# Altium footprint library Passive_Footprints.PcbLib: 25 footprints (part 2 of 2)
Each footprint in its own frame and in the unit in brackets; x right, y up, seen from the top. Pads: shape width x height; smd on the part's side, far side on the other; paste and mask are expansions set on the pad; w line width, h text height; cw(c..) or ccw(c..) is an arc to the next point about the centre after c.
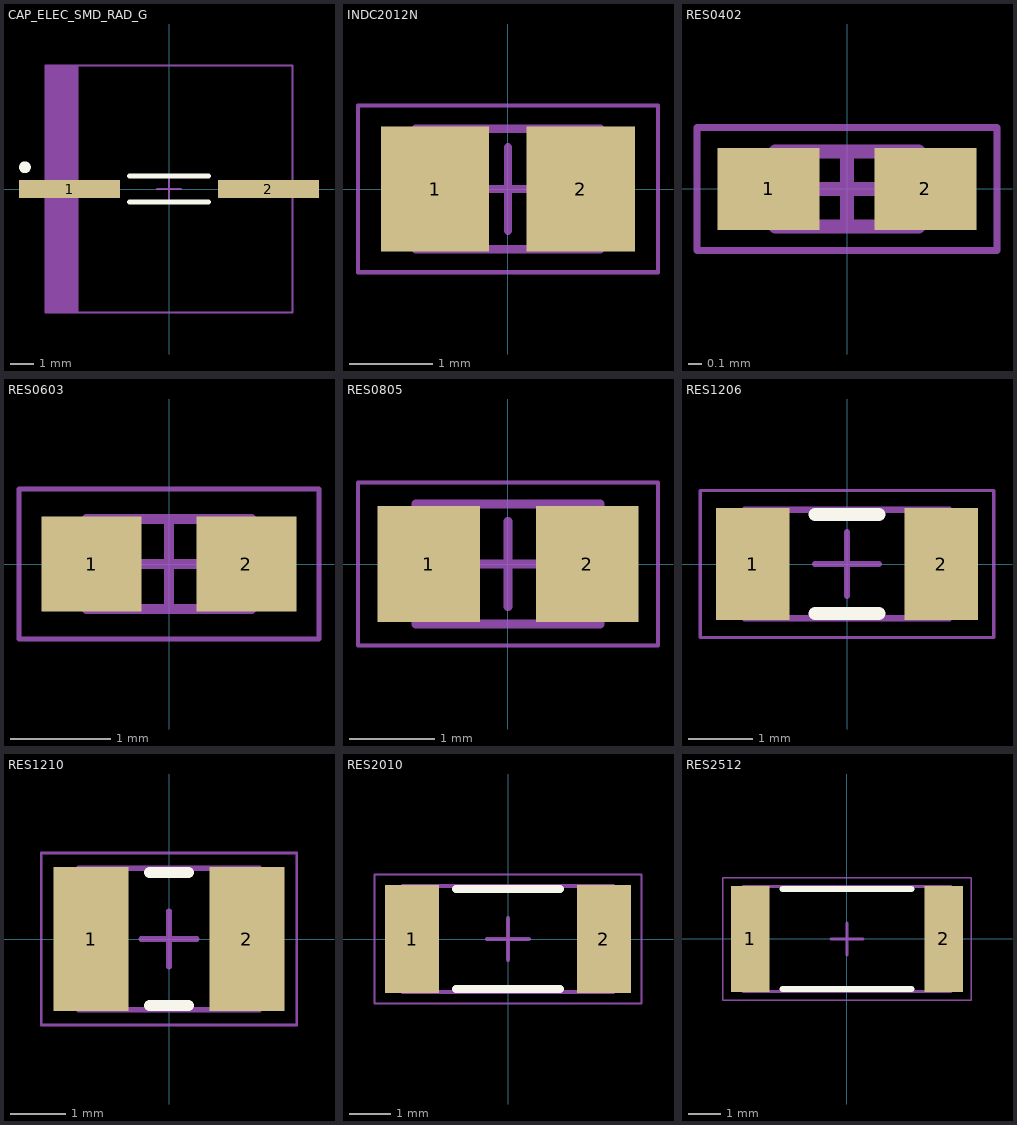
[diagram p1: the footprints below, top view; thin cyan lines are the x and y axes]

## CAP_ELEC_SMD_RAD_G [mm] "Molded Capacitor, 2-Leads, Body 11.60x0.85mm, IPC Medium Density"
height 1.8
pads (2):
  rect 4.3x0.75 smd: 1(-4.225,0) 2(4.225,0)
Top Overlay:
  circle w0.25: c-6.125,0.925 r0.125
  lines w0.2: -1.675,-0.55 1.675,-0.55 ; -1.675,0.55 1.675,0.55
Mechanical 13:
  rectangle: -5.25,-5.25 -3.838,5.25
  lines w0.1: -5.25,-5.25 5.25,-5.25 5.25,5.25 -5.25,5.25 -5.25,-5.25
Mechanical 15:
  lines w0.05: -5.25,-5.25 5.25,-5.25 5.25,5.25 -5.25,5.25 -5.25,-5.25
  lines w0.1: -0.5,0 0.5,0 ; 0,-0.5 0,0.5
3D body: height 1.8, standoff 0, extent -5.25,-5.25 5.25,5.25

## INDC2012N [mm] "0805 Chip Inductor, 2-Leads, Body 2.01x1.25mm, IPC Medium Density"
height 0.89
pads (2):
  rect 1.3x1.5 smd: 1(-0.875,0) 2(0.875,0)
Mechanical 9:
  lines w0.05: -1.8,-1 1.8,-1 1.8,1 -1.8,1 -1.8,-1
  text ".Designator" at -0.175,-0.15 h0.3
Mechanical 13:
  lines w0.1: -1.105,-0.725 1.105,-0.725 1.105,0.725 -1.105,0.725 -1.105,-0.725
Mechanical 15:
  lines w0.05: -1.8,-1 1.8,-1 1.8,1 -1.8,1 -1.8,-1
  lines w0.1: -0.5,0 0.5,0 ; 0,-0.5 0,0.5
3D body: height 0.89, standoff 0, extent 0.605,-0.725 1.105,0.725
3D body: height 0.89, standoff 0, extent -1.105,-0.725 -0.605,0.725
3D body: height 0.89, standoff 0, extent -0.605,-0.725 0.605,0.725

## RES0402 [mm] "Chip Resistor, 2-Leads, Body 1.00x0.50mm, IPC Medium Density"
height 0.5
pads (2):
  rect 0.75x0.6 smd: 1(-0.575,0) 2(0.575,0)
Mechanical 13:
  lines w0.1: -0.525,-0.275 0.525,-0.275 0.525,0.275 -0.525,0.275 -0.525,-0.275
Mechanical 15:
  lines w0.05: -1.1,-0.45 1.1,-0.45 1.1,0.45 -1.1,0.45 -1.1,-0.45
  lines w0.1: -0.275,0 0.275,0 ; 0,-0.275 0,0.275
3D body: height 0.5, standoff 0, extent 0.325,-0.275 0.525,0.275
3D body: height 0.5, standoff 0, extent -0.525,-0.275 -0.325,0.275
3D body: height 0.5, standoff 0, extent -0.325,-0.275 0.325,0.275

## RES0603 [mm] "Chip Resistor, 2-Leads, Body 1.55x0.80mm, IPC Medium Density"
height 0.55
pads (2):
  rect 1x0.95 smd: 1(-0.775,0) 2(0.775,0)
Mechanical 13:
  lines w0.1: -0.825,-0.45 0.825,-0.45 0.825,0.45 -0.825,0.45 -0.825,-0.45
Mechanical 15:
  lines w0.05: -1.5,-0.75 1.5,-0.75 1.5,0.75 -1.5,0.75 -1.5,-0.75
  lines w0.1: -0.45,0 0.45,0 ; 0,-0.45 0,0.45
3D body: height 0.55, standoff 0, extent 0.525,-0.45 0.825,0.45
3D body: height 0.55, standoff 0, extent -0.825,-0.45 -0.525,0.45
3D body: height 0.55, standoff 0, extent -0.525,-0.45 0.525,0.45

## RES0805 [mm] "Chip Resistor, 2-Leads, Body 2.00x1.25mm, IPC Medium Density"
height 0.6
pads (2):
  rect 1.2x1.35 smd: 1(-0.925,0) 2(0.925,0)
Mechanical 13:
  lines w0.1: -1.075,-0.7 1.075,-0.7 1.075,0.7 -1.075,0.7 -1.075,-0.7
Mechanical 15:
  lines w0.05: -1.75,-0.95 1.75,-0.95 1.75,0.95 -1.75,0.95 -1.75,-0.95
  lines w0.1: -0.5,0 0.5,0 ; 0,-0.5 0,0.5
3D body: height 0.6, standoff 0, extent 0.695,-0.7 1.075,0.7
3D body: height 0.6, standoff 0, extent -1.075,-0.7 -0.695,0.7
3D body: height 0.6, standoff 0, extent -0.695,-0.7 0.695,0.7

## RES1206 [mm] "Chip Resistor, 2-Leads, Body 3.05x1.55mm, IPC Medium Density"
height 0.75
pads (2):
  rect 1.15x1.75 smd: 1(-1.475,0) 2(1.475,0)
Top Overlay:
  lines w0.2: -0.5,-0.775 0.5,-0.775 ; -0.5,0.775 0.5,0.775
Mechanical 13:
  lines w0.1: -1.6,-0.85 1.6,-0.85 1.6,0.85 -1.6,0.85 -1.6,-0.85
Mechanical 15:
  lines w0.05: -2.3,-1.15 2.3,-1.15 2.3,1.15 -2.3,1.15 -2.3,-1.15
  lines w0.1: -0.5,0 0.5,0 ; 0,-0.5 0,0.5
3D body: height 0.75, standoff 0, extent 1.22,-0.85 1.6,0.85
3D body: height 0.75, standoff 0, extent -1.6,-0.85 -1.22,0.85
3D body: height 0.75, standoff 0, extent -1.22,-0.85 1.22,0.85

## RES1210 [mm] "Chip Resistor, 2-Leads, Body 3.10x2.40mm, IPC Medium Density"
height 0.65
pads (2):
  rect 1.35x2.6 smd: 1(-1.4,0) 2(1.4,0)
Top Overlay:
  lines w0.2: -0.35,-1.2 0.35,-1.2 ; -0.35,1.2 0.35,1.2
Mechanical 13:
  lines w0.1: -1.625,-1.275 1.625,-1.275 1.625,1.275 -1.625,1.275 -1.625,-1.275
Mechanical 15:
  lines w0.05: -2.3,-1.55 2.3,-1.55 2.3,1.55 -2.3,1.55 -2.3,-1.55
  lines w0.1: -0.5,0 0.5,0 ; 0,-0.5 0,0.5
3D body: height 0.65, standoff 0, extent 1.175,-1.275 1.625,1.275
3D body: height 0.65, standoff 0, extent -1.625,-1.275 -1.175,1.275
3D body: height 0.65, standoff 0, extent -1.175,-1.275 1.175,1.275

## RES2010 [mm] "Chip Resistor, 2-Leads, Body 4.90x2.40mm, IPC Medium Density"
height 0.65
pads (2):
  rect 1.3x2.6 smd: 1(-2.3,0) 2(2.3,0)
Top Overlay:
  lines w0.2: -1.25,-1.2 1.25,-1.2 ; -1.25,1.2 1.25,1.2
Mechanical 13:
  lines w0.1: -2.525,-1.275 2.525,-1.275 2.525,1.275 -2.525,1.275 -2.525,-1.275
Mechanical 15:
  lines w0.05: -3.2,-1.55 3.2,-1.55 3.2,1.55 -3.2,1.55 -3.2,-1.55
  lines w0.1: -0.5,0 0.5,0 ; 0,-0.5 0,0.5
3D body: height 0.65, standoff 0, extent 2.045,-1.275 2.525,1.275
3D body: height 0.65, standoff 0, extent -2.525,-1.275 -2.045,1.275
3D body: height 0.65, standoff 0, extent -2.045,-1.275 2.045,1.275

## RES2512 [mm] "Chip Resistor, 2-Leads, Body 6.30x3.10mm, IPC Medium Density"
height 0.65
pads (2):
  rect 1.2x3.3 smd: 1(-3,0) 2(3,0)
Top Overlay:
  lines w0.2: -2,-1.55 2,-1.55 ; -2,1.55 2,1.55
Mechanical 13:
  lines w0.1: -3.225,-1.625 3.225,-1.625 3.225,1.625 -3.225,1.625 -3.225,-1.625
Mechanical 15:
  lines w0.05: -3.85,-1.9 3.85,-1.9 3.85,1.9 -3.85,1.9 -3.85,-1.9
  lines w0.1: -0.5,0 0.5,0 ; 0,-0.5 0,0.5
3D body: height 0.65, standoff 0, extent 2.725,-1.625 3.225,1.625
3D body: height 0.65, standoff 0, extent -3.225,-1.625 -2.725,1.625
3D body: height 0.65, standoff 0, extent -2.725,-1.625 2.725,1.625